# Altium integrated library BMD-340.IntLib: 1 symbol
Pins are listed as number, name and electrical type; pins without a type are passive.

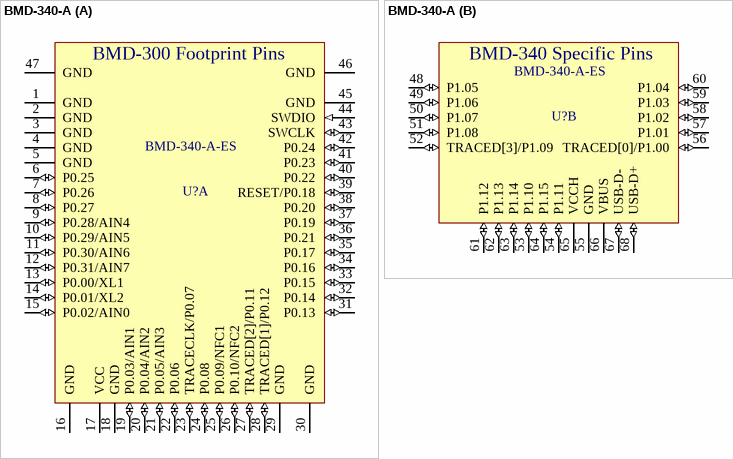
[diagram p0: symbol BMD-340-A]

## BMD-340-A
designator U?  Manufacturer P/N: BMD-340-A-ES  (hidden comment: BMD-340-A)
Bluetooth 5 LE Module, PRELIMINARY, nRF52840, 1MB Flash, 256kB RAM; Manufacturer: Rigado, Inc; Internal Antenna: Yes; Protocol: BT 5 LE, 802.154/Thread, 2.4GHz Proprietary; Height: 1.9mm; Size: 15mm x 10.2mm; Part Number: BMD-340-A
footprint BMD-340 (BMD-340, LGA, 68pin ,1.1mm Pitch, 15mm x 10.2mm)
part A pins: 1 GND (power), 2 GND (power), 3 GND (power), 4 GND (power), 5 GND (power), 6 P0.25 (io), 7 P0.26 (io), 8 P0.27 (io), 9 P0.28/AIN4 (io), 10 P0.29/AIN5 (io), 11 P0.30/AIN6 (io), 12 P0.31/AIN7 (io), 13 P0.00/XL1 (io), 14 P0.01/XL2 (io), 15 P0.02/AIN0 (io), 16 GND (power), 17 VCC (power), 18 GND (power), 19 P0.03/AIN1 (io), 20 P0.04/AIN2 (io), 21 P0.05/AIN3 (io), 22 P0.06 (io), 23 TRACECLK/P0.07 (io), 24 P0.08 (io), 25 P0.09/NFC1 (io), 26 P0.10/NFC2 (io), 27 TRACED[2]/P0.11 (io), 28 TRACED[1]/P0.12 (io), 29 GND (power), 30 GND (power), 31 P0.13 (io), 32 P0.14 (io), 33 P0.15 (io), 34 P0.16 (io), 35 P0.17 (io), 36 P0.21 (io), 37 P0.19 (io), 38 P0.20 (io), 39 RESET/P0.18 (io), 40 P0.22 (io), 41 P0.23 (io), 42 P0.24 (io), 43 SWCLK (io), 44 SWDIO (in), 45 GND (power), 46 GND (power), 47 GND (power)
part B pins: 48 P1.05 (io), 49 P1.06 (io), 50 P1.07 (io), 51 P1.08 (io), 52 TRACED[3]/P1.09 (io), 53 P1.10 (io), 54 P1.11 (io), 55 GND (power), 56 TRACED[0]/P1.00 (io), 57 P1.01 (io), 58 P1.02 (io), 59 P1.03 (io), 60 P1.04 (io), 61 P1.12 (io), 62 P1.13 (io), 63 P1.14 (io), 64 P1.15 (io), 65 VCCH (power), 66 VBUS (power), 67 USB-D- (io), 68 USB-D+ (io)
part A text: BMD-300 Footprint Pins
part B text: BMD-340 Specific Pins